# EAGLE library part 685119248223 (library EagleLibrary_Wuerth_Elektronik_eiCan_Communication_Connectors_v6_20150113)
WR-COM Angled SMT Micro HDMI,Receptacle Hybird Mount consist of Vertical and Horizontal Type shell tabs=>Code : Con_I-O_COM_Micro-HDMI_685119248223 <http://katalog.we-online.de/media/images/eican/Con_I-O_COM_Micro-HDMI_685119248223_pf2.jpg> Details see: http://katalog.we-online.de/en/em/685_119_248_223 Created 2014-07-09, Karrer Zheng 2014 (C) Würth Elektronik
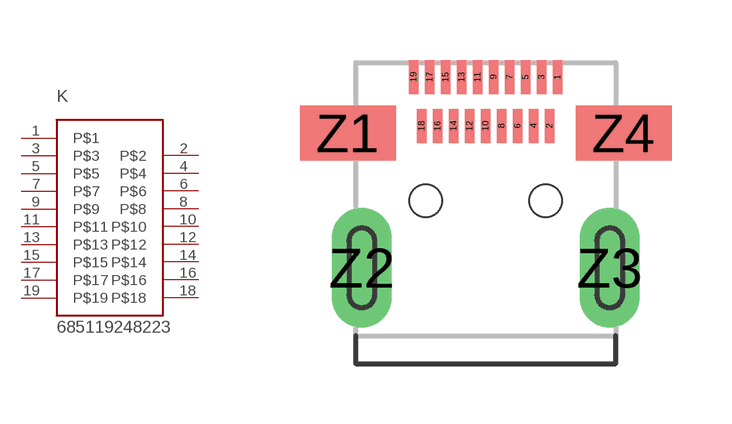
[diagram p77: symbol with the pads of 685119248223; footprint 685119248223]

Designator prefix K

## 685119248223  [685119248223]
1  P$1
2  P$2
3  P$3
4  P$4
5  P$5
6  P$6
7  P$7
8  P$8
9  P$9
10  P$10
11  P$11
12  P$12
13  P$13
14  P$14
15  P$15
16  P$16
17  P$17
18  P$18
19  P$19

## Footprint 685119248223 (pad centres in mm)
smd 0.23 x 0.85: 1 0,0; 2 -0.2,-1.225; 3 -0.4,0; 4 -0.6,-1.225; 5 -0.8,0; 6 -1,-1.225; 7 -1.2,0; 8 -1.4,-1.225; 9 -1.6,0; 10 -1.8,-1.225; 11 -2,0; 12 -2.2,-1.225; 13 -2.4,0; 14 -2.6,-1.225; 15 -2.8,0; 16 -3,-1.225; 17 -3.2,0; 18 -3.4,-1.225; 19 -3.6,0
smd 2.4 x 1.38: Z1 -5.25,-1.405; Z4 1.65,-1.405
drill 0.65 pad 1.5 long: Z2 -4.9,-4.775; Z3 1.3,-4.775
hole 0.81 at -0.3,-3.095
hole 0.81 at -3.3,-3.095